# Altium schematic symbol library WE-HIDA.SchLib: 20 symbols
Pins are listed as number, name and electrical type; pins without a type are passive.

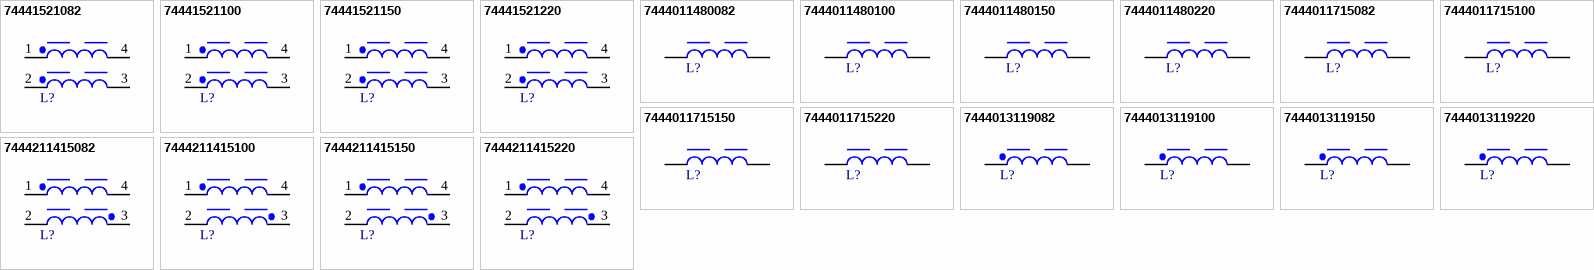
[diagram p0: symbols 74441521082 to 7444211415220]

## 74441521082
designator L?, comment 8.2µH, 10A  (value not drawn)
WE-HIDA THT High Current Inductor, size 1521, 8.2µH, 10A; Manufacturer Part Number: 74441521082; Manufacturer: Wurth Elektronik; Case/Size Code: 1521; DC Resistance: 6.2mΩ; Inductance Tolerance: +/-20%; Saturation Current: 17.5A; Self Resonant Frequency: 16MHz; Category: Inductors for Digital Audio; Match Code: WE-HIDA; ComponentLink1Description: Website Link; ComponentLink1URL: https://www.we-online.com/redexpert/article/74441521082?ad; ComponentLink2Description: Datasheet Link; ComponentLink2URL: https://www.we-online.com/redexpert/spec/74441521082?ad; Mount: Through Hole; Operating Temperature Max: 125°C; Operating Temperature Min: -40°C; Packaging: Tray; Length: 14.5mm; Width: 21mm; Height: 15.2mm; Inductance: 8.2µH; Rated Current: 10A
footprint WE-HIDA_1521_74441521082
simulation model 1521_74441521082_8.2u
pins: 1, 2, 3, 4

## 74441521100
designator L?, comment 10µH, 9A  (value not drawn)
WE-HIDA THT High Current Inductor, size 1521, 10µH, 9A; Manufacturer Part Number: 74441521100; Manufacturer: Wurth Elektronik; Case/Size Code: 1521; DC Resistance: 6.3mΩ; Inductance Tolerance: +/-20%; Saturation Current: 13.5A; Self Resonant Frequency: 14MHz; Category: Inductors for Digital Audio; Match Code: WE-HIDA; ComponentLink1Description: Website Link; ComponentLink1URL: https://www.we-online.com/redexpert/article/74441521100?ad; ComponentLink2Description: Datasheet Link; ComponentLink2URL: https://www.we-online.com/redexpert/spec/74441521100?ad; Mount: Through Hole; Operating Temperature Max: 125°C; Operating Temperature Min: -40°C; Packaging: Tray; Length: 14.5mm; Width: 21mm; Height: 15.2mm; Inductance: 10µH; Rated Current: 9A
footprint WE-HIDA_1521_74441521100
simulation model 1521_74441521100_10u
pins: 1, 2, 3, 4

## 74441521150
designator L?, comment 15µH, 8A  (value not drawn)
WE-HIDA THT High Current Inductor, size 1521, 15µH, 8A; Manufacturer Part Number: 74441521150; Manufacturer: Wurth Elektronik; Case/Size Code: 1521; DC Resistance: 8.5mΩ; Inductance Tolerance: +/-20%; Saturation Current: 10A; Self Resonant Frequency: 13MHz; Category: Inductors for Digital Audio; Match Code: WE-HIDA; ComponentLink1Description: Website Link; ComponentLink1URL: https://www.we-online.com/redexpert/article/74441521150?ad; ComponentLink2Description: Datasheet Link; ComponentLink2URL: https://www.we-online.com/redexpert/spec/74441521150?ad; Mount: Through Hole; Operating Temperature Max: 125°C; Operating Temperature Min: -40°C; Packaging: Tray; Length: 14.5mm; Width: 21mm; Height: 15.2mm; Inductance: 15µH; Rated Current: 8A
footprint WE-HIDA_1521_74441521150
simulation model 1521_74441521150_15u
pins: 1, 2, 3, 4

## 74441521220
designator L?, comment 22µH, 7A  (value not drawn)
WE-HIDA THT High Current Inductor, size 1521, 22µH, 7A; Manufacturer Part Number: 74441521220; Manufacturer: Wurth Elektronik; Case/Size Code: 1521; DC Resistance: 13.6mΩ; Inductance Tolerance: +/-20%; Self Resonant Frequency: 9MHz; Category: Inductors for Digital Audio; Match Code: WE-HIDA; ComponentLink1Description: Website Link; ComponentLink1URL: https://www.we-online.com/redexpert/article/74441521220?ad; ComponentLink2Description: Datasheet Link; ComponentLink2URL: https://www.we-online.com/redexpert/spec/74441521220?ad; Mount: Through Hole; Operating Temperature Max: 125°C; Operating Temperature Min: -40°C; Packaging: Tray; Length: 14.5mm; Width: 21mm; Height: 15.2mm; Inductance: 22µH; Rated Current: 7A; Saturation Current: 7A
footprint WE-HIDA_1521_74441521220
simulation model 1521_74441521220_22u
pins: 1, 2, 3, 4

## 7444011480082
designator L?, comment 8.2µH, 8.5A  (value not drawn)
WE-HIDA THT High Current Inductor, size 1480, 8.2µH, 8.5A; Manufacturer Part Number: 7444011480082; Manufacturer: Wurth Elektronik; Case/Size Code: 1480; DC Resistance: 9mΩ; Inductance Tolerance: +/-20%; Saturation Current: 16A; Self Resonant Frequency: 19MHz; Category: Inductors for Digital Audio; Match Code: WE-HIDA; ComponentLink1Description: Website Link; ComponentLink1URL: https://www.we-online.com/redexpert/article/7444011480082?ad; ComponentLink2Description: Datasheet Link; ComponentLink2URL: https://www.we-online.com/redexpert/spec/7444011480082?ad; Mount: Through Hole; Operating Temperature Max: 125°C; Operating Temperature Min: -40°C; Packaging: Tray; Length: 14mm; Width: 8mm; Height: 16mm; Inductance: 8.2µH; Rated Current: 8.5A
footprint WE-HIDA_1480
simulation model 1480_7444011480082_8.2u
pins: 1, 2

## 7444011480100
designator L?, comment 10µH, 8.5A  (value not drawn)
WE-HIDA THT High Current Inductor, size 1480, 10µH, 8.5A; Manufacturer Part Number: 7444011480100; Manufacturer: Wurth Elektronik; Case/Size Code: 1480; DC Resistance: 9mΩ; Inductance Tolerance: +/-20%; Saturation Current: 13.5A; Self Resonant Frequency: 18MHz; Category: Inductors for Digital Audio; Match Code: WE-HIDA; ComponentLink1Description: Website Link; ComponentLink1URL: https://www.we-online.com/redexpert/article/7444011480100?ad; ComponentLink2Description: Datasheet Link; ComponentLink2URL: https://www.we-online.com/redexpert/spec/7444011480100?ad; Mount: Through Hole; Operating Temperature Max: 125°C; Operating Temperature Min: -40°C; Packaging: Tray; Length: 14mm; Width: 8mm; Height: 16mm; Inductance: 10µH; Rated Current: 8.5A
footprint WE-HIDA_1480
simulation model 1480_7444011480100_10u
pins: 1, 2

## 7444011480150
designator L?, comment 15µH, 8A  (value not drawn)
WE-HIDA THT High Current Inductor, size 1480, 15µH, 8A; Manufacturer Part Number: 7444011480150; Manufacturer: Wurth Elektronik; Case/Size Code: 1480; DC Resistance: 10mΩ; Inductance Tolerance: +/-20%; Saturation Current: 9.5A; Self Resonant Frequency: 13MHz; Category: Inductors for Digital Audio; Match Code: WE-HIDA; ComponentLink1Description: Website Link; ComponentLink1URL: https://www.we-online.com/redexpert/article/7444011480150?ad; ComponentLink2Description: Datasheet Link; ComponentLink2URL: https://www.we-online.com/redexpert/spec/7444011480150?ad; Mount: Through Hole; Operating Temperature Max: 125°C; Operating Temperature Min: -40°C; Packaging: Tray; Length: 14mm; Width: 8mm; Height: 16mm; Inductance: 15µH; Rated Current: 8A
footprint WE-HIDA_1480
simulation model 1480_7444011480150_15u
pins: 1, 2

## 7444011480220
designator L?, comment 22µH, 8A  (value not drawn)
WE-HIDA THT High Current Inductor, size 1480, 22µH, 8A; Manufacturer Part Number: 7444011480220; Manufacturer: Wurth Elektronik; Case/Size Code: 1480; DC Resistance: 10mΩ; Inductance Tolerance: +/-20%; Saturation Current: 6.5A; Self Resonant Frequency: 9MHz; Category: Inductors for Digital Audio; Match Code: WE-HIDA; ComponentLink1Description: Website Link; ComponentLink1URL: https://www.we-online.com/redexpert/article/7444011480220?ad; ComponentLink2Description: Datasheet Link; ComponentLink2URL: https://www.we-online.com/redexpert/spec/7444011480220?ad; Mount: Through Hole; Operating Temperature Max: 125°C; Operating Temperature Min: -40°C; Packaging: Tray; Length: 14mm; Width: 8mm; Height: 16mm; Inductance: 22µH; Rated Current: 8A
footprint WE-HIDA_1480
simulation model 1480_7444011480220_22u
pins: 1, 2

## 7444011715082
designator L?, comment 8.2µH, 10A  (value not drawn)
WE-HIDA THT High Current Inductor, size 1715, 8.2µH, 10A; Manufacturer Part Number: 7444011715082; Manufacturer: Wurth Elektronik; Case/Size Code: 1715; DC Resistance: 7mΩ; Inductance Tolerance: +/-20%; Saturation Current: 34A; Self Resonant Frequency: 21MHz; Category: Inductors for Digital Audio; Match Code: WE-HIDA; ComponentLink1Description: Website Link; ComponentLink1URL: https://www.we-online.com/redexpert/article/7444011715082?ad; ComponentLink2Description: Datasheet Link; ComponentLink2URL: https://www.we-online.com/redexpert/spec/7444011715082?ad; Mount: Through Hole; Operating Temperature Max: 125°C; Operating Temperature Min: -40°C; Packaging: Tray; Length: 17.5mm; Width: 15mm; Height: 19.5mm; Inductance: 8.2µH; Rated Current: 10A
footprint WE-HIDA_1715
simulation model 1715_7444011715082_8.2u
pins: 1, 2

## 7444011715100
designator L?, comment 10µH, 10A  (value not drawn)
WE-HIDA THT High Current Inductor, size 1715, 10µH, 10A; Manufacturer Part Number: 7444011715100; Manufacturer: Wurth Elektronik; Case/Size Code: 1715; DC Resistance: 7mΩ; Inductance Tolerance: +/-20%; Saturation Current: 28A; Self Resonant Frequency: 19MHz; Category: Inductors for Digital Audio; Match Code: WE-HIDA; ComponentLink1Description: Website Link; ComponentLink1URL: https://www.we-online.com/redexpert/article/7444011715100?ad; ComponentLink2Description: Datasheet Link; ComponentLink2URL: https://www.we-online.com/redexpert/spec/7444011715100?ad; Mount: Through Hole; Operating Temperature Max: 125°C; Operating Temperature Min: -40°C; Packaging: Tray; Length: 17.5mm; Width: 15mm; Height: 19.5mm; Inductance: 10µH; Rated Current: 10A
footprint WE-HIDA_1715
simulation model 1715_7444011715100_10u
pins: 1, 2

## 7444011715150
designator L?, comment 15µH, 10A  (value not drawn)
WE-HIDA THT High Current Inductor, size 1715, 15µH, 10A; Manufacturer Part Number: 7444011715150; Manufacturer: Wurth Elektronik; Case/Size Code: 1715; DC Resistance: 7mΩ; Inductance Tolerance: +/-20%; Saturation Current: 18A; Self Resonant Frequency: 14MHz; Category: Inductors for Digital Audio; Match Code: WE-HIDA; ComponentLink1Description: Website Link; ComponentLink1URL: https://www.we-online.com/redexpert/article/7444011715150?ad; ComponentLink2Description: Datasheet Link; ComponentLink2URL: https://www.we-online.com/redexpert/spec/7444011715150?ad; Mount: Through Hole; Operating Temperature Max: 125°C; Operating Temperature Min: -40°C; Packaging: Tray; Length: 17.5mm; Width: 15mm; Height: 19.5mm; Inductance: 15µH; Rated Current: 10A
footprint WE-HIDA_1715
simulation model 1715_7444011715150_15u
pins: 1, 2

## 7444011715220
designator L?, comment 22µH, 10A  (value not drawn)
WE-HIDA THT High Current Inductor, size 1715, 22µH, 10A; Manufacturer Part Number: 7444011715220; Manufacturer: Wurth Elektronik; Case/Size Code: 1715; DC Resistance: 7mΩ; Inductance Tolerance: +/-20%; Saturation Current: 12A; Self Resonant Frequency: 11MHz; Category: Inductors for Digital Audio; Match Code: WE-HIDA; ComponentLink1Description: Website Link; ComponentLink1URL: https://www.we-online.com/redexpert/article/7444011715220?ad; ComponentLink2Description: Datasheet Link; ComponentLink2URL: https://www.we-online.com/redexpert/spec/7444011715220?ad; Mount: Through Hole; Operating Temperature Max: 125°C; Operating Temperature Min: -40°C; Packaging: Tray; Length: 17.5mm; Width: 15mm; Height: 19.5mm; Inductance: 22µH; Rated Current: 10A
footprint WE-HIDA_1715
simulation model 1715_7444011715220_22u
pins: 1, 2

## 7444013119082
designator L?, comment 8.2µH, 19A  (value not drawn)
WE-HIDA THT High Current Inductor, size 3119, 8.2µH, 19A; Manufacturer Part Number: 7444013119082; Manufacturer: Wurth Elektronik; Case/Size Code: 3119; DC Resistance: 2.5mΩ; Inductance Tolerance: +/-20%; Saturation Current: 52A; Self Resonant Frequency: 16MHz; Category: Inductors for Digital Audio; Match Code: WE-HIDA; ComponentLink1Description: Website Link; ComponentLink1URL: https://www.we-online.com/redexpert/article/7444013119082?ad; ComponentLink2Description: Datasheet Link; ComponentLink2URL: https://www.we-online.com/redexpert/spec/7444013119082?ad; Mount: Through Hole; Operating Temperature Max: 125°C; Operating Temperature Min: -40°C; Packaging: Tray; Length: 31mm; Width: 19mm; Height: 35mm; Inductance: 8.2µH; Rated Current: 19A
footprint WE-HIDA_3119_7444013119082
simulation model 3119_7444013119082_8.2u
pins: 1, 2

## 7444013119100
designator L?, comment 10µH, 11A  (value not drawn)
WE-HIDA THT High Current Inductor, size 3119, 10µH, 11A; Manufacturer Part Number: 7444013119100; Manufacturer: Wurth Elektronik; Case/Size Code: 3119; DC Resistance: 4.8mΩ; Inductance Tolerance: +/-20%; Saturation Current: 58A; Self Resonant Frequency: 13MHz; Category: Inductors for Digital Audio; Match Code: WE-HIDA; ComponentLink1Description: Website Link; ComponentLink1URL: https://www.we-online.com/redexpert/article/7444013119100?ad; ComponentLink2Description: Datasheet Link; ComponentLink2URL: https://www.we-online.com/redexpert/spec/7444013119100?ad; Mount: Through Hole; Operating Temperature Max: 125°C; Operating Temperature Min: -40°C; Packaging: Tray; Length: 31mm; Width: 19mm; Height: 35mm; Inductance: 10µH; Rated Current: 11A
footprint WE-HIDA_3119_7444013119100
simulation model 3119_7444013119100_10u
pins: 1, 2

## 7444013119150
designator L?, comment 15µH, 11A  (value not drawn)
WE-HIDA THT High Current Inductor, size 3119, 15µH, 11A; Manufacturer Part Number: 7444013119150; Manufacturer: Wurth Elektronik; Case/Size Code: 3119; DC Resistance: 4.8mΩ; Inductance Tolerance: +/-20%; Saturation Current: 41A; Self Resonant Frequency: 11MHz; Category: Inductors for Digital Audio; Match Code: WE-HIDA; ComponentLink1Description: Website Link; ComponentLink1URL: https://www.we-online.com/redexpert/article/7444013119150?ad; ComponentLink2Description: Datasheet Link; ComponentLink2URL: https://www.we-online.com/redexpert/spec/7444013119150?ad; Mount: Through Hole; Operating Temperature Max: 125°C; Operating Temperature Min: -40°C; Packaging: Tray; Length: 31mm; Width: 19mm; Height: 35mm; Inductance: 15µH; Rated Current: 11A
footprint WE-HIDA_3119_7444013119150
simulation model 3119_7444013119150_15u
pins: 1, 2

## 7444013119220
designator L?, comment 22µH, 10A  (value not drawn)
WE-HIDA THT High Current Inductor, size 3119, 22µH, 10A; Manufacturer Part Number: 7444013119220; Manufacturer: Wurth Elektronik; Case/Size Code: 3119; DC Resistance: 5.3mΩ; Inductance Tolerance: +/-20%; Saturation Current: 33A; Self Resonant Frequency: 9MHz; Category: Inductors for Digital Audio; Match Code: WE-HIDA; ComponentLink1Description: Website Link; ComponentLink1URL: https://www.we-online.com/redexpert/article/7444013119220?ad; ComponentLink2Description: Datasheet Link; ComponentLink2URL: https://www.we-online.com/redexpert/spec/7444013119220?ad; Mount: Through Hole; Operating Temperature Max: 125°C; Operating Temperature Min: -40°C; Packaging: Tray; Length: 31mm; Width: 19mm; Height: 35mm; Inductance: 22µH; Rated Current: 10A
footprint WE-HIDA_3119_7444013119220
simulation model 3119_7444013119220_22u
pins: 1, 2

## 7444211415082
designator L?, comment 8.2µH, 6.7A  (value not drawn)
WE-HIDA THT High Current Inductor, size 1415, 8.2µH, 6.7A; Manufacturer Part Number: 7444211415082; Manufacturer: Wurth Elektronik; Case/Size Code: 1415; DC Resistance: 9.2mΩ; Inductance Tolerance: +/-20%; Saturation Current: 16A; Self Resonant Frequency: 20MHz; Category: Inductors for Digital Audio; Match Code: WE-HIDA; ComponentLink1Description: Website Link; ComponentLink1URL: https://www.we-online.com/redexpert/article/7444211415082?ad; ComponentLink2Description: Datasheet Link; ComponentLink2URL: https://www.we-online.com/redexpert/spec/7444211415082?ad; Mount: Through Hole; Operating Temperature Max: 125°C; Operating Temperature Min: -40°C; Packaging: Tray; Length: 14mm; Width: 15.5mm; Height: 16mm; Inductance: 8.2µH; Rated Current: 6.7A
footprint WE-HIDA_1415_7444211415082
simulation model 1415_7444211415082_8.2u
pins: 1, 2, 3, 4

## 7444211415100
designator L?, comment 10µH, 6.7A  (value not drawn)
WE-HIDA THT High Current Inductor, size 1415, 10µH, 6.7A; Manufacturer Part Number: 7444211415100; Manufacturer: Wurth Elektronik; Case/Size Code: 1415; DC Resistance: 9.2mΩ; Inductance Tolerance: +/-20%; Saturation Current: 12.5A; Self Resonant Frequency: 18MHz; Category: Inductors for Digital Audio; Match Code: WE-HIDA; ComponentLink1Description: Website Link; ComponentLink1URL: https://www.we-online.com/redexpert/article/7444211415100?ad; ComponentLink2Description: Datasheet Link; ComponentLink2URL: https://www.we-online.com/redexpert/spec/7444211415100?ad; Mount: Through Hole; Operating Temperature Max: 125°C; Operating Temperature Min: -40°C; Packaging: Tray; Length: 14mm; Width: 15.5mm; Height: 16mm; Inductance: 10µH; Rated Current: 6.7A
footprint WE-HIDA_1415_7444211415100
simulation model 1415_7444211415100_10u
pins: 1, 2, 3, 4

## 7444211415150
designator L?, comment 15µH, 5.8A  (value not drawn)
WE-HIDA THT High Current Inductor, size 1415, 15µH, 5.8A; Manufacturer Part Number: 7444211415150; Manufacturer: Wurth Elektronik; Case/Size Code: 1415; DC Resistance: 14.6mΩ; Inductance Tolerance: +/-20%; Saturation Current: 9.5A; Self Resonant Frequency: 13MHz; Category: Inductors for Digital Audio; Match Code: WE-HIDA; ComponentLink1Description: Website Link; ComponentLink1URL: https://www.we-online.com/redexpert/article/7444211415150?ad; ComponentLink2Description: Datasheet Link; ComponentLink2URL: https://www.we-online.com/redexpert/spec/7444211415150?ad; Mount: Through Hole; Operating Temperature Max: 125°C; Operating Temperature Min: -40°C; Packaging: Tray; Length: 14mm; Width: 15.5mm; Height: 16mm; Inductance: 15µH; Rated Current: 5.8A
footprint WE-HIDA_1415_7444211415150
simulation model 1415_7444211415150_15u
pins: 1, 2, 3, 4

## 7444211415220
designator L?, comment 22µH, 5.7A  (value not drawn)
WE-HIDA THT High Current Inductor, size 1415, 22µH, 5.7A; Manufacturer Part Number: 7444211415220; Manufacturer: Wurth Elektronik; Case/Size Code: 1415; DC Resistance: 14.8mΩ; Inductance Tolerance: +/-20%; Saturation Current: 7A; Self Resonant Frequency: 10MHz; Category: Inductors for Digital Audio; Match Code: WE-HIDA; ComponentLink1Description: Website Link; ComponentLink1URL: https://www.we-online.com/redexpert/article/7444211415220?ad; ComponentLink2Description: Datasheet Link; ComponentLink2URL: https://www.we-online.com/redexpert/spec/7444211415220?ad; Mount: Through Hole; Operating Temperature Max: 125°C; Operating Temperature Min: -40°C; Packaging: Tray; Length: 14mm; Width: 15.5mm; Height: 16mm; Inductance: 22µH; Rated Current: 5.7A
footprint WE-HIDA_1415_7444211415220
simulation model 1415_7444211415220_22u
pins: 1, 2, 3, 4